# EAGLE library part STM32F030F4 (library Namenlos)
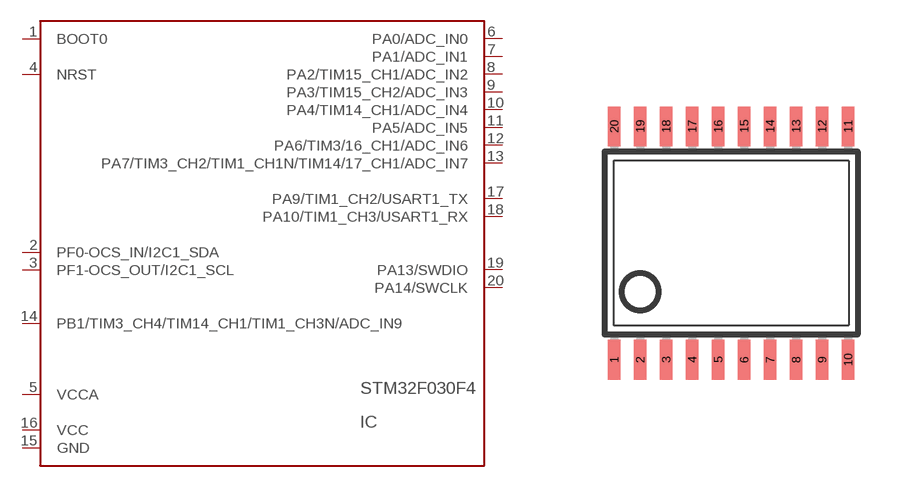
[diagram p28: symbol with the pads of TSSOP20; footprint TSSOP20]

Designator prefix IC

## STM32F030F4  [TSSOP20]
1  BOOT0
2  PF0-OCS_IN/I2C1_SDA
3  PF1-OCS_OUT/I2C1_SCL
4  NRST
5  VCCA  pwr
6  PA0/ADC_IN0
7  PA1/ADC_IN1
8  PA2/TIM15_CH1/ADC_IN2
9  PA3/TIM15_CH2/ADC_IN3
10  PA4/TIM14_CH1/ADC_IN4
11  PA5/ADC_IN5
12  PA6/TIM3/16_CH1/ADC_IN6
13  PA7/TIM3_CH2/TIM1_CH1N/TIM14/17_CH1/ADC_IN7
14  PB1/TIM3_CH4/TIM14_CH1/TIM1_CH3N/ADC_IN9
15  GND  pwr
16  VCC  pwr
17  PA9/TIM1_CH2/USART1_TX
18  PA10/TIM1_CH3/USART1_RX
19  PA13/SWDIO
20  PA14/SWCLK

## Footprint TSSOP20 (pad centres in mm)
Thin Shrink Small Outline Plastic 20 MAX3223-MAX3243.pdf
smd 0.305 x 0.991: 1 -2.925,-2.918; 2 -2.275,-2.918; 3 -1.625,-2.918; 4 -0.975,-2.918; 5 -0.325,-2.918; 6 0.325,-2.918; 7 0.975,-2.918; 8 1.625,-2.918; 9 2.275,-2.918; 10 2.925,-2.918; 11 2.925,2.918; 12 2.275,2.918; 13 1.625,2.918; 14 0.975,2.918; 15 0.325,2.918; 16 -0.325,2.918; 17 -0.975,2.918; 18 -1.625,2.918; 19 -2.275,2.918; 20 -2.925,2.918